# Altium integrated library Analog Devices Switches and Multiplexers Multiplexers (Muxes).IntLib: 481 symbols (part 8 of 23)
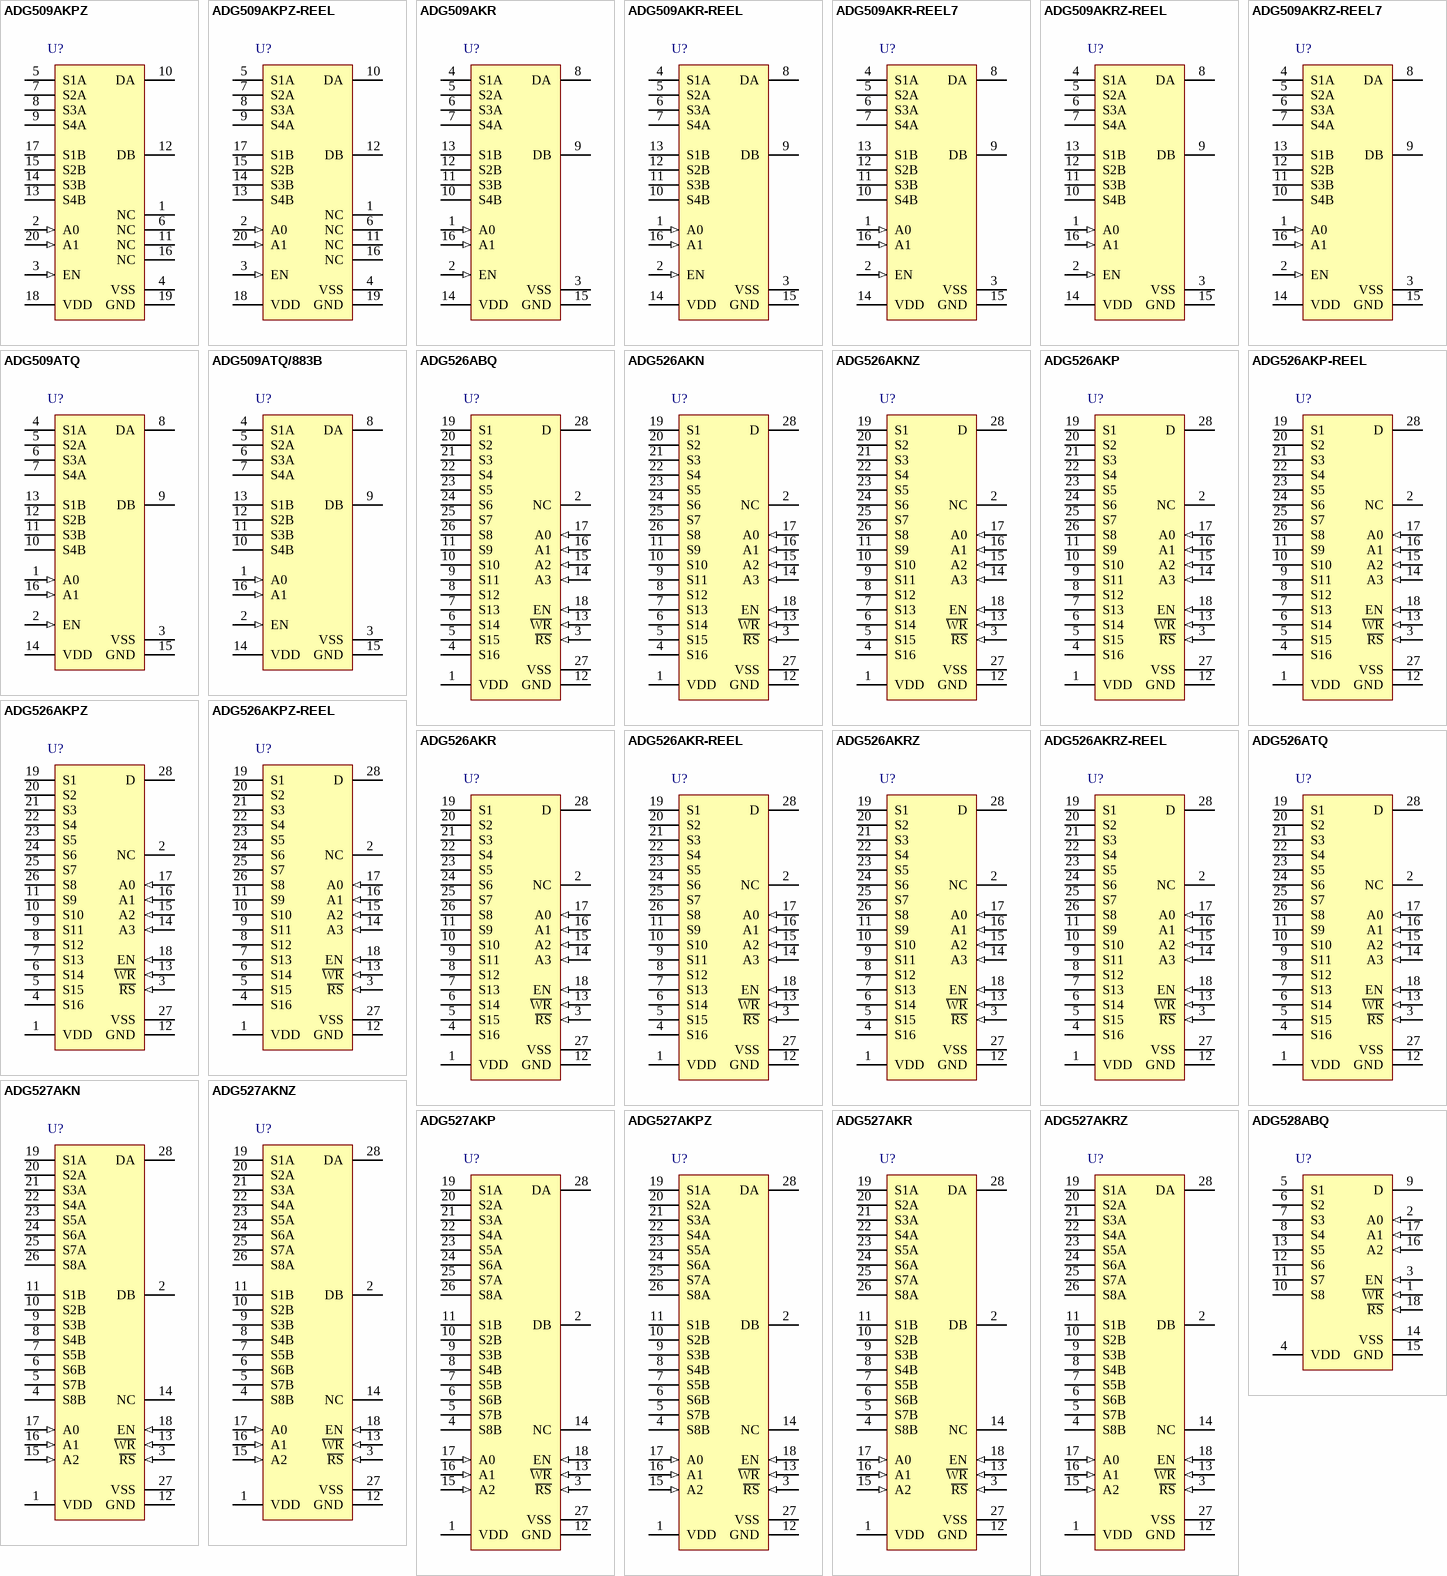
[diagram p24: symbols ADG509AKPZ to ADG528ABQ]

## ADG526AKNZ
designator U?
CMOS Latched 16-Channel Analog Multiplexer, -40 to 85 degC, 28-pin DIP (N-28-2), Tube; Manufacturer: Analog Devices; PartNumber: ADG526AKNZ; Max Analog Signal Range: Vss to Vdd; Ron (ohms): 280; Supply V Guar Performance: Dual_(+/-12V), Dual_(+/-15V), Single_(+12V), Single_(+15V); t transition (s): 200n; DatasheetVersion: Rev. C; PackageVersion: 071006-A, 07/2006; PackageReference: N-28-2; PackageDescription: 28-Pin Plastic Dual In-Line Package, Row spacing 15.24 mm, Pitch 2.54 mm; Supplier 1: Digi-Key; Supplier Part Number 1: ADG526AKNZ-ND; Supplier 2: Farnell; Supplier Part Number 2: 1079380; Supplier 3: Newark; Supplier Part Number 3: 19M0678; Supplier 4: Mouser; Supplier Part Number 4: 584-ADG526AKNZ; Packing: Tube; Mounting Technology: Through Hole; Code_JEDEC: MS-011; ComponentLink1Description: Manufacturer URL; ComponentLink1URL: http://www.analog.com/en/index.html; ComponentLink2Description: Datasheet; ComponentLink2URL: http://www.analog.com/static/imported-files/data_sheets/ADG526A_527A.pdf; ComponentLink3Description: Package Specification; ComponentLink3URL: http://www.analog.com/static/imported-files/packages/50849324123784N_28_2.pdf
footprint ADI-N-28-2 (DIP, 28-Leads, Body 37.4x13.52mm, Pitch 2.54mm)
pins: 1 VDD (power) "Most Positive Power Supply Potential.", 2 NC "No Connect.", 3 ~{RS} (in) "Reset. The R\S\ signal clears both the address and enable data in the latches resulting in no output (all switches off).", 4 S16 "Source Terminal. This pin can be an input or output.", 5 S15 "Source Terminal. This pin can be an input or output.", 6 S14 "Source Terminal. This pin can be an input or output.", 7 S13 "Source Terminal. This pin can be an input or output.", 8 S12 "Source Terminal. This pin can be an input or output.", 9 S11 "Source Terminal. This pin can be an input or output.", 10 S10 "Source Terminal. This pin can be an input or output.", 11 S9 "Source Terminal. This pin can be an input or output.", 12 GND (power) "Ground (0 V) Reference.", 13 ~{WR} (in) "Write. The W\R\ signal latches the state of the address control lines and the enable line.", 14 A3 (in) "Logic Control Inputs. Selects which source terminal is connected to the drain (D).", 15 A2 (in) "Logic Control Inputs. Selects which source terminal is connected to the drain (D).", 16 A1 (in) "Logic Control Inputs. Selects which source terminal is connected to the drain (D).", 17 A0 (in) "Logic control inputs. Selects which source terminal is connected to the drain (D).", 18 EN (in) "Enable. Active high logic control input.", 19 S1 "Source Terminal. This pin can be an input or output.", 20 S2 "Source Terminal. This pin can be an input or output.", 21 S3 "Source Terminal. This pin can be an input or output.", 22 S4 "Source Terminal. This pin can be an input or output.", 23 S5 "Source Terminal. This pin can be an input or output.", 24 S6 "Source Terminal. This pin can be an input or output.", 25 S7 "Source Terminal. This pin can be an input or output.", 26 S8 "Source Terminal. This pin can be an input or output.", 27 VSS (power) "Most Negative Power Supply Potential.", 28 D "Drain Terminal. This pin can be an input or output."

## ADG526AKP
designator U?
CMOS Latched 16-Channel Analog Multiplexer, -40 to 85 degC, 28-pin PLCC (P-28), Tube; Manufacturer: Analog Devices; PartNumber: ADG526AKP; Max Analog Signal Range: Vss to Vdd; Ron (ohms): 280; Supply V Guar Performance: Dual_(+/-12V), Dual_(+/-15V), Single_(+12V), Single_(+15V); t transition (s): 200n; DatasheetVersion: Rev. C; PackageVersion: 042508-A, 04/2008; PackageReference: P-28; PackageDescription: 28-Pin Plastic Leaded Chip Carrier, Body 11.51 x 11.51 mm, Pitch 1.27 mm; Supplier 1: Digi-Key; Supplier Part Number 1: ADG526AKP-ND; Supplier 2: Newark; Supplier Part Number 2: 56J9241; Supplier 3: Mouser; Supplier Part Number 3: 584-ADG526AKP; Packing: Tube; Mounting Technology: Surface Mount; Code_JEDEC: MO-047-AB; ComponentLink1Description: Manufacturer URL; ComponentLink1URL: http://www.analog.com/en/index.html; ComponentLink2Description: Datasheet; ComponentLink2URL: http://www.analog.com/static/imported-files/data_sheets/ADG526A_527A.pdf; ComponentLink3Description: Package Specification; ComponentLink3URL: http://www.analog.com/static/imported-files/packages/PKG_PDF/PLCC(P)/P_28.pdf
footprint ADI-P-28_N (PLCC, 28-Leads, Body 11.51x11.51mm, Pitch 1.27mm, IPC Medium Density)
footprint ADI-P-28_L (PLCC, 28-Leads, Body 11.51x11.51mm, Pitch 1.27mm, IPC High Density)
footprint ADI-P-28_M (PLCC, 28-Leads, Body 11.51x11.51mm, Pitch 1.27mm, IPC Low Density)
pins: 1 VDD (power) "Most Positive Power Supply Potential.", 2 NC "No connect", 3 ~{RS} (in) "Reset. The R\S\ signal clears both the address and enable data in the latches resulting in no output (all switches off).", 4 S16 "Source Terminal. This pin can be an input or output.", 5 S15 "Source Terminal. This pin can be an input or output.", 6 S14 "Source Terminal. This pin can be an input or output.", 7 S13 "Source Terminal. This pin can be an input or output.", 8 S12 "Source Terminal. This pin can be an input or output.", 9 S11 "Source Terminal. This pin can be an input or output.", 10 S10 "Source Terminal. This pin can be an input or output.", 11 S9 "Source Terminal. This pin can be an input or output.", 12 GND (power) "Ground (0 V) Reference.", 13 ~{WR} (in) "Write. The W\R\ signal latches the state of the address control lines and the enable line.", 14 A3 (in) "Logic Control Inputs. Selects which source terminal is connected to the drain (D).", 15 A2 (in) "Logic Control Inputs. Selects which source terminal is connected to the drain (D).", 16 A1 (in) "Logic Control Inputs. Selects which source terminal is connected to the drain (D).", 17 A0 (in) "Logic Control Inputs. Selects which source terminal is connected to the drain (D).", 18 EN (in) "Enable. Active high logic control input.", 19 S1 "Source Terminal. This pin can be an input or output.", 20 S2 "Source Terminal. This pin can be an input or output.", 21 S3 "Source Terminal. This pin can be an input or output.", 22 S4 "Source Terminal. This pin can be an input or output.", 23 S5 "Source Terminal. This pin can be an input or output.", 24 S6 "Source Terminal. This pin can be an input or output.", 25 S7 "Source Terminal. This pin can be an input or output.", 26 S8 "Source Terminal. This pin can be an input or output.", 27 VSS (power) "Most Negative Power Supply Potential.", 28 D "Drain Terminal. This pin can be an input or output."

## ADG526AKP-REEL
designator U?
CMOS Latched 16-Channel Analog Multiplexer, -40 to 85 degC, 28-pin PLCC (P-28), Reel; Manufacturer: Analog Devices; PartNumber: ADG526AKP-REEL; Max Analog Signal Range: Vss to Vdd; Ron (ohms): 280; Supply V Guar Performance: Dual_(+/-12V), Dual_(+/-15V), Single_(+12V), Single_(+15V); t transition (s): 200n; DatasheetVersion: Rev. C; PackageVersion: 042508-A, 04/2008; PackageReference: P-28; PackageDescription: 28-Pin Plastic Leaded Chip Carrier, Body 11.51 x 11.51 mm, Pitch 1.27 mm; Supplier 1: Mouser; Supplier Part Number 1: N/A; Packing: Reel; Mounting Technology: Surface Mount; Code_JEDEC: MO-047-AB; ComponentLink1Description: Manufacturer URL; ComponentLink1URL: http://www.analog.com/en/index.html; ComponentLink2Description: Datasheet; ComponentLink2URL: http://www.analog.com/static/imported-files/data_sheets/ADG526A_527A.pdf; ComponentLink3Description: Package Specification; ComponentLink3URL: http://www.analog.com/static/imported-files/packages/PKG_PDF/PLCC(P)/P_28.pdf
footprint ADI-P-28_N (PLCC, 28-Leads, Body 11.51x11.51mm, Pitch 1.27mm, IPC Medium Density)
footprint ADI-P-28_L (PLCC, 28-Leads, Body 11.51x11.51mm, Pitch 1.27mm, IPC High Density)
footprint ADI-P-28_M (PLCC, 28-Leads, Body 11.51x11.51mm, Pitch 1.27mm, IPC Low Density)
pins: 1 VDD (power) "Most Positive Power Supply Potential.", 2 NC "No connect", 3 ~{RS} (in) "Reset. The R\S\ signal clears both the address and enable data in the latches resulting in no output (all switches off).", 4 S16 "Source Terminal. This pin can be an input or output.", 5 S15 "Source Terminal. This pin can be an input or output.", 6 S14 "Source Terminal. This pin can be an input or output.", 7 S13 "Source Terminal. This pin can be an input or output.", 8 S12 "Source Terminal. This pin can be an input or output.", 9 S11 "Source Terminal. This pin can be an input or output.", 10 S10 "Source Terminal. This pin can be an input or output.", 11 S9 "Source Terminal. This pin can be an input or output.", 12 GND (power) "Ground (0 V) Reference.", 13 ~{WR} (in) "Write. The W\R\ signal latches the state of the address control lines and the enable line.", 14 A3 (in) "Logic Control Inputs. Selects which source terminal is connected to the drain (D).", 15 A2 (in) "Logic Control Inputs. Selects which source terminal is connected to the drain (D).", 16 A1 (in) "Logic Control Inputs. Selects which source terminal is connected to the drain (D).", 17 A0 (in) "Logic Control Inputs. Selects which source terminal is connected to the drain (D).", 18 EN (in) "Enable. Active high logic control input.", 19 S1 "Source Terminal. This pin can be an input or output.", 20 S2 "Source Terminal. This pin can be an input or output.", 21 S3 "Source Terminal. This pin can be an input or output.", 22 S4 "Source Terminal. This pin can be an input or output.", 23 S5 "Source Terminal. This pin can be an input or output.", 24 S6 "Source Terminal. This pin can be an input or output.", 25 S7 "Source Terminal. This pin can be an input or output.", 26 S8 "Source Terminal. This pin can be an input or output.", 27 VSS (power) "Most Negative Power Supply Potential.", 28 D "Drain Terminal. This pin can be an input or output."

## ADG526AKPZ
designator U?
CMOS Latched 16-Channel Analog Multiplexer, -40 to 85 degC, 28-pin PLCC (P-28), Tube; Manufacturer: Analog Devices; PartNumber: ADG526AKPZ; Max Analog Signal Range: Vss to Vdd; Ron (ohms): 280; Supply V Guar Performance: Dual_(+/-12V), Dual_(+/-15V), Single_(+12V), Single_(+15V); t transition (s): 200n; DatasheetVersion: Rev. C; PackageVersion: 042508-A, 04/2008; PackageReference: P-28; PackageDescription: 28-Pin Plastic Leaded Chip Carrier, Body 11.51 x 11.51 mm, Pitch 1.27 mm; Supplier 1: Digi-Key; Supplier Part Number 1: ADG526AKPZ-ND; Supplier 2: Newark; Supplier Part Number 2: 12M7807; Supplier 3: Mouser; Supplier Part Number 3: 584-ADG526AKPZ; Packing: Tube; Mounting Technology: Surface Mount; Code_JEDEC: MO-047-AB; ComponentLink1Description: Manufacturer URL; ComponentLink1URL: http://www.analog.com/en/index.html; ComponentLink2Description: Datasheet; ComponentLink2URL: http://www.analog.com/static/imported-files/data_sheets/ADG526A_527A.pdf; ComponentLink3Description: Package Specification; ComponentLink3URL: http://www.analog.com/static/imported-files/packages/PKG_PDF/PLCC(P)/P_28.pdf
footprint ADI-P-28_N (PLCC, 28-Leads, Body 11.51x11.51mm, Pitch 1.27mm, IPC Medium Density)
footprint ADI-P-28_L (PLCC, 28-Leads, Body 11.51x11.51mm, Pitch 1.27mm, IPC High Density)
footprint ADI-P-28_M (PLCC, 28-Leads, Body 11.51x11.51mm, Pitch 1.27mm, IPC Low Density)
pins: 1 VDD (power) "Most Positive Power Supply Potential.", 2 NC "No connect", 3 ~{RS} (in) "Reset. The R\S\ signal clears both the address and enable data in the latches resulting in no output (all switches off).", 4 S16 "Source Terminal. This pin can be an input or output.", 5 S15 "Source Terminal. This pin can be an input or output.", 6 S14 "Source Terminal. This pin can be an input or output.", 7 S13 "Source Terminal. This pin can be an input or output.", 8 S12 "Source Terminal. This pin can be an input or output.", 9 S11 "Source Terminal. This pin can be an input or output.", 10 S10 "Source Terminal. This pin can be an input or output.", 11 S9 "Source Terminal. This pin can be an input or output.", 12 GND (power) "Ground (0 V) Reference.", 13 ~{WR} (in) "Write. The W\R\ signal latches the state of the address control lines and the enable line.", 14 A3 (in) "Logic Control Inputs. Selects which source terminal is connected to the drain (D).", 15 A2 (in) "Logic Control Inputs. Selects which source terminal is connected to the drain (D).", 16 A1 (in) "Logic Control Inputs. Selects which source terminal is connected to the drain (D).", 17 A0 (in) "Logic Control Inputs. Selects which source terminal is connected to the drain (D).", 18 EN (in) "Enable. Active high logic control input.", 19 S1 "Source Terminal. This pin can be an input or output.", 20 S2 "Source Terminal. This pin can be an input or output.", 21 S3 "Source Terminal. This pin can be an input or output.", 22 S4 "Source Terminal. This pin can be an input or output.", 23 S5 "Source Terminal. This pin can be an input or output.", 24 S6 "Source Terminal. This pin can be an input or output.", 25 S7 "Source Terminal. This pin can be an input or output.", 26 S8 "Source Terminal. This pin can be an input or output.", 27 VSS (power) "Most Negative Power Supply Potential.", 28 D "Drain Terminal. This pin can be an input or output."

## ADG526AKPZ-REEL
designator U?
CMOS Latched 16-Channel Analog Multiplexer, -40 to 85 degC, 28-pin PLCC (P-28), Reel; Manufacturer: Analog Devices; PartNumber: ADG526AKPZ-REEL; Max Analog Signal Range: Vss to Vdd; Ron (ohms): 280; Supply V Guar Performance: Dual_(+/-12V), Dual_(+/-15V), Single_(+12V), Single_(+15V); t transition (s): 200n; DatasheetVersion: Rev. C; PackageVersion: 042508-A, 04/2008; PackageReference: P-28; PackageDescription: 28-Pin Plastic Leaded Chip Carrier, Body 11.51 x 11.51 mm, Pitch 1.27 mm; Supplier 1: Digi-Key; Supplier Part Number 1: ADG526AKPZ-REEL-ND; Supplier 2: Newark; Supplier Part Number 2: 12M7808; Supplier 3: Mouser; Supplier Part Number 3: 584-ADG526AKPZ-R; Packing: Reel; Mounting Technology: Surface Mount; Code_JEDEC: MO-047-AB; ComponentLink1Description: Manufacturer URL; ComponentLink1URL: http://www.analog.com/en/index.html; ComponentLink2Description: Datasheet; ComponentLink2URL: http://www.analog.com/static/imported-files/data_sheets/ADG526A_527A.pdf; ComponentLink3Description: Package Specification; ComponentLink3URL: http://www.analog.com/static/imported-files/packages/PKG_PDF/PLCC(P)/P_28.pdf
footprint ADI-P-28_N (PLCC, 28-Leads, Body 11.51x11.51mm, Pitch 1.27mm, IPC Medium Density)
footprint ADI-P-28_L (PLCC, 28-Leads, Body 11.51x11.51mm, Pitch 1.27mm, IPC High Density)
footprint ADI-P-28_M (PLCC, 28-Leads, Body 11.51x11.51mm, Pitch 1.27mm, IPC Low Density)
pins: 1 VDD (power) "Most Positive Power Supply Potential.", 2 NC "No connect", 3 ~{RS} (in) "Reset. The R\S\ signal clears both the address and enable data in the latches resulting in no output (all switches off).", 4 S16 "Source Terminal. This pin can be an input or output.", 5 S15 "Source Terminal. This pin can be an input or output.", 6 S14 "Source Terminal. This pin can be an input or output.", 7 S13 "Source Terminal. This pin can be an input or output.", 8 S12 "Source Terminal. This pin can be an input or output.", 9 S11 "Source Terminal. This pin can be an input or output.", 10 S10 "Source Terminal. This pin can be an input or output.", 11 S9 "Source Terminal. This pin can be an input or output.", 12 GND (power) "Ground (0 V) Reference.", 13 ~{WR} (in) "Write. The W\R\ signal latches the state of the address control lines and the enable line.", 14 A3 (in) "Logic Control Inputs. Selects which source terminal is connected to the drain (D).", 15 A2 (in) "Logic Control Inputs. Selects which source terminal is connected to the drain (D).", 16 A1 (in) "Logic Control Inputs. Selects which source terminal is connected to the drain (D).", 17 A0 (in) "Logic Control Inputs. Selects which source terminal is connected to the drain (D).", 18 EN (in) "Enable. Active high logic control input.", 19 S1 "Source Terminal. This pin can be an input or output.", 20 S2 "Source Terminal. This pin can be an input or output.", 21 S3 "Source Terminal. This pin can be an input or output.", 22 S4 "Source Terminal. This pin can be an input or output.", 23 S5 "Source Terminal. This pin can be an input or output.", 24 S6 "Source Terminal. This pin can be an input or output.", 25 S7 "Source Terminal. This pin can be an input or output.", 26 S8 "Source Terminal. This pin can be an input or output.", 27 VSS (power) "Most Negative Power Supply Potential.", 28 D "Drain Terminal. This pin can be an input or output."

## ADG526AKR
designator U?
CMOS Latched 16-Channel Analog Multiplexer, -40 to 85 degC, 28-pin SOIC (RW-28), Tube; Manufacturer: Analog Devices; PartNumber: ADG526AKR; Max Analog Signal Range: Vss to Vdd; Ron (ohms): 280; Supply V Guar Performance: Dual_(+/-12V), Dual_(+/-15V), Single_(+12V), Single_(+15V); t transition (s): 200n; DatasheetVersion: Rev. C; PackageVersion: 060706-A, 06/2006; PackageReference: RW-28; PackageDescription: 28-Pin Standard Small Outline Package, Body 17.9 x 7.5 mm, Pitch 1.27 mm; Supplier 1: Digi-Key; Supplier Part Number 1: ADG526AKR-ND; Supplier 2: Mouser; Supplier Part Number 2: 584-ADG526AKR; Packing: Tube; Mounting Technology: Surface Mount; Code_JEDEC: MS-013-AE; ComponentLink1Description: Manufacturer URL; ComponentLink1URL: http://www.analog.com/en/index.html; ComponentLink2Description: Datasheet; ComponentLink2URL: http://www.analog.com/static/imported-files/data_sheets/ADG526A_527A.pdf; ComponentLink3Description: Package Specification; ComponentLink3URL: http://www.analog.com/static/imported-files/packages/35833120341221RW_28.pdf
footprint ADI-RW-28_N (SOIC, 28-Leads, Body 17.9x7.5mm, Pitch 1.27mm, IPC Medium Density)
footprint ADI-RW-28_L (SOIC, 28-Leads, Body 17.9x7.5mm, Pitch 1.27mm, IPC High Density)
footprint ADI-RW-28_M (SOIC, 28-Leads, Body 17.9x7.5mm, Pitch 1.27mm, IPC Low Density)
pins: 1 VDD (power) "Most Positive Power Supply Potential.", 2 NC "No Connect.", 3 ~{RS} (in) "Reset. The R\S\ signal clears both the address and enable data in the latches resulting in no output (all switches off).", 4 S16 "Source Terminal. This pin can be an input or output.", 5 S15 "Source Terminal. This pin can be an input or output.", 6 S14 "Source Terminal. This pin can be an input or output.", 7 S13 "Source Terminal. This pin can be an input or output.", 8 S12 "Source Terminal. This pin can be an input or output.", 9 S11 "Source Terminal. This pin can be an input or output.", 10 S10 "Source Terminal. This pin can be an input or output.", 11 S9 "Source Terminal. This pin can be an input or output.", 12 GND (power) "Ground (0 V) Reference.", 13 ~{WR} (in) "Write. The W\R\ signal latches the state of the address control lines and the enable line.", 14 A3 (in) "Logic control inputs. Selects which source terminal is connected to the drain (D).", 15 A2 (in) "Logic control inputs. Selects which source terminal is connected to the drain (D).", 16 A1 (in) "Logic control inputs. Selects which source terminal is connected to the drain (D).", 17 A0 (in) "Logic control inputs. Selects which source terminal is connected to the drain (D).", 18 EN (in) "Enable. Active high logic control input.", 19 S1 "Source Terminal. This pin can be an input or output.", 20 S2 "Source Terminal. This pin can be an input or output.", 21 S3 "Source Terminal. This pin can be an input or output.", 22 S4 "Source Terminal. This pin can be an input or output.", 23 S5 "Source Terminal. This pin can be an input or output.", 24 S6 "Source Terminal. This pin can be an input or output.", 25 S7 "Source Terminal. This pin can be an input or output.", 26 S8 "Source Terminal. This pin can be an input or output.", 27 VSS (power) "Most Negative Power Supply Potential.", 28 D "Drain Terminal. This pin can be an input or output."

## ADG526AKR-REEL
designator U?
CMOS Latched 16-Channel Analog Multiplexer, -40 to 85 degC, 28-pin SOIC (RW-28), Reel; Manufacturer: Analog Devices; PartNumber: ADG526AKR-REEL; Max Analog Signal Range: Vss to Vdd; Ron (ohms): 280; Supply V Guar Performance: Dual_(+/-12V), Dual_(+/-15V), Single_(+12V), Single_(+15V); t transition (s): 200n; DatasheetVersion: Rev. C; PackageVersion: 060706-A, 06/2006; PackageReference: RW-28; PackageDescription: 28-Pin Standard Small Outline Package, Body 17.9 x 7.5 mm, Pitch 1.27 mm; Supplier 1: Digi-Key; Supplier Part Number 1: ADG526AKR-REEL-ND; Supplier 2: Newark; Supplier Part Number 2: 09B7115; Supplier 3: Mouser; Supplier Part Number 3: 584-ADG526AKR-R; Packing: Reel; Mounting Technology: Surface Mount; Code_JEDEC: MS-013-AE; ComponentLink1Description: Manufacturer URL; ComponentLink1URL: http://www.analog.com/en/index.html; ComponentLink2Description: Datasheet; ComponentLink2URL: http://www.analog.com/static/imported-files/data_sheets/ADG526A_527A.pdf; ComponentLink3Description: Package Specification; ComponentLink3URL: http://www.analog.com/static/imported-files/packages/35833120341221RW_28.pdf
footprint ADI-RW-28_N (SOIC, 28-Leads, Body 17.9x7.5mm, Pitch 1.27mm, IPC Medium Density)
footprint ADI-RW-28_L (SOIC, 28-Leads, Body 17.9x7.5mm, Pitch 1.27mm, IPC High Density)
footprint ADI-RW-28_M (SOIC, 28-Leads, Body 17.9x7.5mm, Pitch 1.27mm, IPC Low Density)
pins: 1 VDD (power) "Most Positive Power Supply Potential.", 2 NC "No Connect.", 3 ~{RS} (in) "Reset. The R\S\ signal clears both the address and enable data in the latches resulting in no output (all switches off).", 4 S16 "Source Terminal. This pin can be an input or output.", 5 S15 "Source Terminal. This pin can be an input or output.", 6 S14 "Source Terminal. This pin can be an input or output.", 7 S13 "Source Terminal. This pin can be an input or output.", 8 S12 "Source Terminal. This pin can be an input or output.", 9 S11 "Source Terminal. This pin can be an input or output.", 10 S10 "Source Terminal. This pin can be an input or output.", 11 S9 "Source Terminal. This pin can be an input or output.", 12 GND (power) "Ground (0 V) Reference.", 13 ~{WR} (in) "Write. The W\R\ signal latches the state of the address control lines and the enable line.", 14 A3 (in) "Logic control inputs. Selects which source terminal is connected to the drain (D).", 15 A2 (in) "Logic control inputs. Selects which source terminal is connected to the drain (D).", 16 A1 (in) "Logic control inputs. Selects which source terminal is connected to the drain (D).", 17 A0 (in) "Logic control inputs. Selects which source terminal is connected to the drain (D).", 18 EN (in) "Enable. Active high logic control input.", 19 S1 "Source Terminal. This pin can be an input or output.", 20 S2 "Source Terminal. This pin can be an input or output.", 21 S3 "Source Terminal. This pin can be an input or output.", 22 S4 "Source Terminal. This pin can be an input or output.", 23 S5 "Source Terminal. This pin can be an input or output.", 24 S6 "Source Terminal. This pin can be an input or output.", 25 S7 "Source Terminal. This pin can be an input or output.", 26 S8 "Source Terminal. This pin can be an input or output.", 27 VSS (power) "Most Negative Power Supply Potential.", 28 D "Drain Terminal. This pin can be an input or output."

## ADG526AKRZ
designator U?
CMOS Latched 16-Channel Analog Multiplexer, -40 to 85 degC, 28-pin SOIC (RW-28), Tube; Manufacturer: Analog Devices; PartNumber: ADG526AKRZ; Max Analog Signal Range: Vss to Vdd; Ron (ohms): 280; Supply V Guar Performance: Dual_(+/-12V), Dual_(+/-15V), Single_(+12V), Single_(+15V); t transition (s): 200n; DatasheetVersion: Rev. C; PackageVersion: 060706-A, 06/2006; PackageReference: RW-28; PackageDescription: 28-Pin Standard Small Outline Package, Body 17.9 x 7.5 mm, Pitch 1.27 mm; Supplier 1: Digi-Key; Supplier Part Number 1: ADG526AKRZ-ND; Supplier 2: Newark; Supplier Part Number 2: 59K1394; Supplier 3: Mouser; Supplier Part Number 3: 584-ADG526AKRZ; Packing: Tube; Mounting Technology: Surface Mount; Code_JEDEC: MS-013-AE; ComponentLink1Description: Manufacturer URL; ComponentLink1URL: http://www.analog.com/en/index.html; ComponentLink2Description: Datasheet; ComponentLink2URL: http://www.analog.com/static/imported-files/data_sheets/ADG526A_527A.pdf; ComponentLink3Description: Package Specification; ComponentLink3URL: http://www.analog.com/static/imported-files/packages/35833120341221RW_28.pdf
footprint ADI-RW-28_N (SOIC, 28-Leads, Body 17.9x7.5mm, Pitch 1.27mm, IPC Medium Density)
footprint ADI-RW-28_L (SOIC, 28-Leads, Body 17.9x7.5mm, Pitch 1.27mm, IPC High Density)
footprint ADI-RW-28_M (SOIC, 28-Leads, Body 17.9x7.5mm, Pitch 1.27mm, IPC Low Density)
pins: 1 VDD (power) "Most Positive Power Supply Potential.", 2 NC "No Connect.", 3 ~{RS} (in) "Reset. The R\S\ signal clears both the address and enable data in the latches resulting in no output (all switches off).", 4 S16 "Source Terminal. This pin can be an input or output.", 5 S15 "Source Terminal. This pin can be an input or output.", 6 S14 "Source Terminal. This pin can be an input or output.", 7 S13 "Source Terminal. This pin can be an input or output.", 8 S12 "Source Terminal. This pin can be an input or output.", 9 S11 "Source Terminal. This pin can be an input or output.", 10 S10 "Source Terminal. This pin can be an input or output.", 11 S9 "Source Terminal. This pin can be an input or output.", 12 GND (power) "Ground (0 V) Reference.", 13 ~{WR} (in) "Write. The W\R\ signal latches the state of the address control lines and the enable line.", 14 A3 (in) "Logic control inputs. Selects which source terminal is connected to the drain (D).", 15 A2 (in) "Logic control inputs. Selects which source terminal is connected to the drain (D).", 16 A1 (in) "Logic control inputs. Selects which source terminal is connected to the drain (D).", 17 A0 (in) "Logic control inputs. Selects which source terminal is connected to the drain (D).", 18 EN (in) "Enable. Active high logic control input.", 19 S1 "Source Terminal. This pin can be an input or output.", 20 S2 "Source Terminal. This pin can be an input or output.", 21 S3 "Source Terminal. This pin can be an input or output.", 22 S4 "Source Terminal. This pin can be an input or output.", 23 S5 "Source Terminal. This pin can be an input or output.", 24 S6 "Source Terminal. This pin can be an input or output.", 25 S7 "Source Terminal. This pin can be an input or output.", 26 S8 "Source Terminal. This pin can be an input or output.", 27 VSS (power) "Most Negative Power Supply Potential.", 28 D "Drain Terminal. This pin can be an input or output."

## ADG526AKRZ-REEL
designator U?
CMOS Latched 16-Channel Analog Multiplexer, -40 to 85 degC, 28-pin SOIC (RW-28), Reel; Manufacturer: Analog Devices; PartNumber: ADG526AKRZ-REEL; Max Analog Signal Range: Vss to Vdd; Ron (ohms): 280; Supply V Guar Performance: Dual_(+/-12V), Dual_(+/-15V), Single_(+12V), Single_(+15V); t transition (s): 200n; DatasheetVersion: Rev. C; PackageVersion: 060706-A, 06/2006; PackageReference: RW-28; PackageDescription: 28-Pin Standard Small Outline Package, Body 17.9 x 7.5 mm, Pitch 1.27 mm; Supplier 1: Digi-Key; Supplier Part Number 1: ADG526AKRZ-REEL-ND; Supplier 2: Newark; Supplier Part Number 2: 12M7809; Supplier 3: Mouser; Supplier Part Number 3: 584-ADG526AKRZ-R; Packing: Reel; Mounting Technology: Surface Mount; Code_JEDEC: MS-013-AE; ComponentLink1Description: Manufacturer URL; ComponentLink1URL: http://www.analog.com/en/index.html; ComponentLink2Description: Datasheet; ComponentLink2URL: http://www.analog.com/static/imported-files/data_sheets/ADG526A_527A.pdf; ComponentLink3Description: Package Specification; ComponentLink3URL: http://www.analog.com/static/imported-files/packages/35833120341221RW_28.pdf
footprint ADI-RW-28_N (SOIC, 28-Leads, Body 17.9x7.5mm, Pitch 1.27mm, IPC Medium Density)
footprint ADI-RW-28_L (SOIC, 28-Leads, Body 17.9x7.5mm, Pitch 1.27mm, IPC High Density)
footprint ADI-RW-28_M (SOIC, 28-Leads, Body 17.9x7.5mm, Pitch 1.27mm, IPC Low Density)
pins: 1 VDD (power) "Most Positive Power Supply Potential.", 2 NC "No Connect.", 3 ~{RS} (in) "Reset. The R\S\ signal clears both the address and enable data in the latches resulting in no output (all switches off).", 4 S16 "Source Terminal. This pin can be an input or output.", 5 S15 "Source Terminal. This pin can be an input or output.", 6 S14 "Source Terminal. This pin can be an input or output.", 7 S13 "Source Terminal. This pin can be an input or output.", 8 S12 "Source Terminal. This pin can be an input or output.", 9 S11 "Source Terminal. This pin can be an input or output.", 10 S10 "Source Terminal. This pin can be an input or output.", 11 S9 "Source Terminal. This pin can be an input or output.", 12 GND (power) "Ground (0 V) Reference.", 13 ~{WR} (in) "Write. The W\R\ signal latches the state of the address control lines and the enable line.", 14 A3 (in) "Logic control inputs. Selects which source terminal is connected to the drain (D).", 15 A2 (in) "Logic control inputs. Selects which source terminal is connected to the drain (D).", 16 A1 (in) "Logic control inputs. Selects which source terminal is connected to the drain (D).", 17 A0 (in) "Logic control inputs. Selects which source terminal is connected to the drain (D).", 18 EN (in) "Enable. Active high logic control input.", 19 S1 "Source Terminal. This pin can be an input or output.", 20 S2 "Source Terminal. This pin can be an input or output.", 21 S3 "Source Terminal. This pin can be an input or output.", 22 S4 "Source Terminal. This pin can be an input or output.", 23 S5 "Source Terminal. This pin can be an input or output.", 24 S6 "Source Terminal. This pin can be an input or output.", 25 S7 "Source Terminal. This pin can be an input or output.", 26 S8 "Source Terminal. This pin can be an input or output.", 27 VSS (power) "Most Negative Power Supply Potential.", 28 D "Drain Terminal. This pin can be an input or output."

## ADG526ATQ
designator U?
CMOS Latched 16-Channel Analog Multiplexer, -55 to 125 degC, 28-pin DIP (Q-28-2), Tube; Manufacturer: Analog Devices; PartNumber: ADG526ATQ; Max Analog Signal Range: Vss to Vdd; Ron (ohms): 280; Supply V Guar Performance: Dual_(+/-12V), Dual_(+/-15V), Single_(+12V), Single_(+15V); t transition (s): 200n; DatasheetVersion: Rev. C; PackageVersion: 030106-A, 03/2006; PackageReference: Q-28-2; PackageDescription: 28-Pin Ceramic Dual In-Line Package, Row spacing 15.24 mm, Pitch 2.54 mm; Supplier 1: Digi-Key; Supplier Part Number 1: ADG526ATQ-ND; Supplier 2: Mouser; Supplier Part Number 2: 584-ADG526ATQ; Packing: Tube; Mounting Technology: Through Hole; ComponentLink1Description: Manufacturer URL; ComponentLink1URL: http://www.analog.com/en/index.html; ComponentLink2Description: Datasheet; ComponentLink2URL: http://www.analog.com/static/imported-files/data_sheets/ADG526A_527A.pdf; ComponentLink3Description: Package Specification; ComponentLink3URL: http://www.analog.com/static/imported-files/packages/4045339666127361303Q_28_2.pdf
footprint ADI-Q-28-2 (DIP, 28-Leads, Body 37.85x14.1mm, Pitch 2.54mm)
pins: 1 VDD (power) "Most Positive Power Supply Potential.", 2 NC "No Connect.", 3 ~{RS} (in) "Reset. The R\S\ signal clears both the address and enable data in the latches resulting in no output (all switches off).", 4 S16 "Source Terminal. This pin can be an input or output.", 5 S15 "Source Terminal. This pin can be an input or output.", 6 S14 "Source Terminal. This pin can be an input or output.", 7 S13 "Source Terminal. This pin can be an input or output.", 8 S12 "Source Terminal. This pin can be an input or output.", 9 S11 "Source Terminal. This pin can be an input or output.", 10 S10 "Source Terminal. This pin can be an input or output.", 11 S9 "Source Terminal. This pin can be an input or output.", 12 GND (power) "Ground (0 V) Reference.", 13 ~{WR} (in) "Write. The W\R\ signal latches the state of the address control lines and the enable line.", 14 A3 (in) "Logic Control Inputs. Selects which source terminal is connected to the drain (D).", 15 A2 (in) "Logic Control Inputs. Selects which source terminal is connected to the drain (D).", 16 A1 (in) "Logic Control Inputs. Selects which source terminal is connected to the drain (D).", 17 A0 (in) "Logic Control Inputs. Selects which source terminal is connected to the drain (D).", 18 EN (in) "Enable. Active high logic control input.", 19 S1 "Source Terminal. This pin can be an input or output.", 20 S2 "Source Terminal. This pin can be an input or output.", 21 S3 "Source Terminal. This pin can be an input or output.", 22 S4 "Source Terminal. This pin can be an input or output.", 23 S5 "Source Terminal. This pin can be an input or output.", 24 S6 "Source Terminal. This pin can be an input or output.", 25 S7 "Source Terminal. This pin can be an input or output.", 26 S8 "Source Terminal. This pin can be an input or output.", 27 VSS (power) "Most Negative Power Supply Potential", 28 D "Drain Terminal. Can be an input or an output."

## ADG527AKN
designator U?
CMOS Latched 8-Channel Analog Multiplexer, -40 to 85 degC, 28-pin DIP (N-28), Tube; Manufacturer: Analog Devices; PartNumber: ADG527AKN; Max Analog Signal Range: Vss to Vdd; Ron (ohms): 280; Supply V Guar Performance: Dual_(+/-12V), Dual_(+/-15V), Single_(+12V), Single_(+15V); t transition (s): 200n; DatasheetVersion: Rev. C; PackageVersion: 071006-A, 07/2006; PackageReference: N-28-2; PackageDescription: 28-Pin Plastic Dual In-Line Package, Row spacing 15.24 mm, Pitch 2.54 mm; Supplier 1: Mouser; Supplier Part Number 1: 584-ADG527AKN; Packing: Tube; Mounting Technology: Through Hole; Code_JEDEC: MS-011; ComponentLink1Description: Manufacturer URL; ComponentLink1URL: http://www.analog.com/en/index.html; ComponentLink2Description: Datasheet; ComponentLink2URL: http://www.analog.com/static/imported-files/data_sheets/ADG526A_527A.pdf; ComponentLink3Description: Package Specification; ComponentLink3URL: http://www.analog.com/static/imported-files/packages/50849324123784N_28_2.pdf
footprint ADI-N-28-2 (DIP, 28-Leads, Body 37.4x13.52mm, Pitch 2.54mm)
pins: 1 VDD (power) "Most Positive Power Supply Potential.", 2 DB "Drain Terminal. This pin can be an input or output.", 3 ~{RS} (in) "Reset. The R\S\ signal clears both the address and enable data in the latches resulting in no output (all switches off).", 4 S8B "Source Terminal. This pin can be an input or output.", 5 S7B "Source Terminal. This pin can be an input or output.", 6 S6B "Source Terminal. This pin can be an input or output.", 7 S5B "Source Terminal. This pin can be an input or output.", 8 S4B "Source Terminal. This pin can be an input or output.", 9 S3B "Source Terminal. This pin can be an input or output.", 10 S2B "Source Terminal. This pin can be an input or output.", 11 S1B "Source Terminal. This pin can be an input or output.", 12 GND (power) "Ground (0 V) Reference.", 13 ~{WR} (in) "Write. The W\R\ signal latches the state of the address control lines and the enable line.", 14 NC "No Connect.", 15 A2 (in) "Logic Control Input. Selects which source terminal is connected to the drain (D).", 16 A1 (in) "Logic Control Input. Selects which source terminal is connected to the drain (D).", 17 A0 (in) "Logic Control Input. Selects which source terminal is connected to the drain (D).", 18 EN (in) "Enable. Active high logic control input.", 19 S1A "Source Terminal. This pin can be an input or output.", 20 S2A "Source Terminal. This pin can be an input or output.", 21 S3A "Source Terminal. This pin can be an input or output.", 22 S4A "Source Terminal. This pin can be an input or output.", 23 S5A "Source Terminal. This pin can be an input or output.", 24 S6A "Source Terminal. This pin can be an input or output.", 25 S7A "Source Terminal. This pin can be an input or output.", 26 S8A "Source Terminal. This pin can be an input or output.", 27 VSS (power) "Most Negative Power Supply Potential.", 28 DA "Drain Terminal. This pin can be an input or output."

## ADG527AKNZ
designator U?
CMOS Latched 8-Channel Analog Multiplexer, -40 to 85 degC, 28-pin DIP (N-28), Tube; Manufacturer: Analog Devices; PartNumber: ADG527AKNZ; Max Analog Signal Range: Vss to Vdd; Ron (ohms): 280; Supply V Guar Performance: Dual_(+/-12V), Dual_(+/-15V), Single_(+12V), Single_(+15V); t transition (s): 200n; DatasheetVersion: Rev. C; PackageVersion: 071006-A, 07/2006; PackageReference: N-28-2; PackageDescription: 28-Pin Plastic Dual In-Line Package, Row spacing 15.24 mm, Pitch 2.54 mm; Supplier 1: Mouser; Supplier Part Number 1: 584-ADG527AKNZ; Packing: Tube; Mounting Technology: Through Hole; Code_JEDEC: MS-011; ComponentLink1Description: Manufacturer URL; ComponentLink1URL: http://www.analog.com/en/index.html; ComponentLink2Description: Datasheet; ComponentLink2URL: http://www.analog.com/static/imported-files/data_sheets/ADG526A_527A.pdf; ComponentLink3Description: Package Specification; ComponentLink3URL: http://www.analog.com/static/imported-files/packages/50849324123784N_28_2.pdf
footprint ADI-N-28-2 (DIP, 28-Leads, Body 37.4x13.52mm, Pitch 2.54mm)
pins: 1 VDD (power) "Most Positive Power Supply Potential.", 2 DB "Drain Terminal. This pin can be an input or output.", 3 ~{RS} (in) "Reset. The R\S\ signal clears both the address and enable data in the latches resulting in no output (all switches off).", 4 S8B "Source Terminal. This pin can be an input or output.", 5 S7B "Source Terminal. This pin can be an input or output.", 6 S6B "Source Terminal. This pin can be an input or output.", 7 S5B "Source Terminal. This pin can be an input or output.", 8 S4B "Source Terminal. This pin can be an input or output.", 9 S3B "Source Terminal. This pin can be an input or output.", 10 S2B "Source Terminal. This pin can be an input or output.", 11 S1B "Source Terminal. This pin can be an input or output.", 12 GND (power) "Ground (0 V) Reference.", 13 ~{WR} (in) "Write. The W\R\ signal latches the state of the address control lines and the enable line.", 14 NC "No Connect.", 15 A2 (in) "Logic Control Input. Selects which source terminal is connected to the drain (D).", 16 A1 (in) "Logic Control Input. Selects which source terminal is connected to the drain (D).", 17 A0 (in) "Logic Control Input. Selects which source terminal is connected to the drain (D).", 18 EN (in) "Enable. Active high logic control input.", 19 S1A "Source Terminal. This pin can be an input or output.", 20 S2A "Source Terminal. This pin can be an input or output.", 21 S3A "Source Terminal. This pin can be an input or output.", 22 S4A "Source Terminal. This pin can be an input or output.", 23 S5A "Source Terminal. This pin can be an input or output.", 24 S6A "Source Terminal. This pin can be an input or output.", 25 S7A "Source Terminal. This pin can be an input or output.", 26 S8A "Source Terminal. This pin can be an input or output.", 27 VSS (power) "Most Negative Power Supply Potential.", 28 DA "Drain Terminal. This pin can be an input or output."

## ADG527AKP
designator U?
CMOS Latched 8-Channel Analog Multiplexer, -40 to 85 degC, 28-pin PLCC (P-28A), Tube; Manufacturer: Analog Devices; PartNumber: ADG527AKP; Max Analog Signal Range: Vss to Vdd; Ron (ohms): 280; Supply V Guar Performance: Dual_(+/-12V), Dual_(+/-15V), Single_(+12V), Single_(+15V); t transition (s): 200n; DatasheetVersion: Rev. C; PackageVersion: 042508-A, 04/2008; PackageReference: P-28; PackageDescription: 28-Pin Plastic Leaded Chip Carrier, Body 11.51 x 11.51 mm, Pitch 1.27 mm; Supplier 1: Mouser; Supplier Part Number 1: 584-ADG527AKP; Packing: Tube; Mounting Technology: Surface Mount; Code_JEDEC: MO-047-AB; ComponentLink1Description: Manufacturer URL; ComponentLink1URL: http://www.analog.com/en/index.html; ComponentLink2Description: Datasheet; ComponentLink2URL: http://www.analog.com/static/imported-files/data_sheets/ADG526A_527A.pdf; ComponentLink3Description: Package Specification; ComponentLink3URL: http://www.analog.com/static/imported-files/packages/PKG_PDF/PLCC(P)/P_28.pdf
footprint ADI-P-28_N (PLCC, 28-Leads, Body 11.51x11.51mm, Pitch 1.27mm, IPC Medium Density)
footprint ADI-P-28_L (PLCC, 28-Leads, Body 11.51x11.51mm, Pitch 1.27mm, IPC High Density)
footprint ADI-P-28_M (PLCC, 28-Leads, Body 11.51x11.51mm, Pitch 1.27mm, IPC Low Density)
pins: 1 VDD (power) "Most Positive Power Supply Potential.", 2 DB "Drain Terminal. This pin can be an input or output.", 3 ~{RS} (in) "Reset. The RS signal clears both the address and enable data in the latches resulting in no output (all switches off).", 4 S8B "Source Terminal. This pin can be an input or output.", 5 S7B "Source Terminal. This pin can be an input or output.", 6 S6B "Source Terminal. This pin can be an input or output.", 7 S5B "Source Terminal. This pin can be an input or output.", 8 S4B "Source Terminal. This pin can be an input or output.", 9 S3B "Source Terminal. This pin can be an input or output.", 10 S2B "Source Terminal. This pin can be an input or output.", 11 S1B "Source Terminal. This pin can be an input or output.", 12 GND (power) "Ground (0 V) Reference.", 13 ~{WR} (in) "Write. The WR signal latches the state of the address control lines and the enable line.", 14 NC "No Connect.", 15 A2 (in) "Logic Control Inputs. Selects which source terminal is connected to the drain (D).", 16 A1 (in) "Logic Control Inputs. Selects which source terminal is connected to the drain (D).", 17 A0 (in) "Logic Control Inputs. Selects which source terminal is connected to the drain (D).", 18 EN (in) "Enable. Active high logic control input.", 19 S1A "Source Terminal. This pin can be an input or output.", 20 S2A "Source Terminal. This pin can be an input or output.", 21 S3A "Source Terminal. This pin can be an input or output.", 22 S4A "Source Terminal. This pin can be an input or output.", 23 S5A "Source Terminal. This pin can be an input or output.", 24 S6A "Source Terminal. This pin can be an input or output.", 25 S7A "Source Terminal. This pin can be an input or output.", 26 S8A "Source Terminal. This pin can be an input or output.", 27 VSS (power) "Most Negative Power Supply Potential.", 28 DA "Drain Terminal. This pin can be an input or output."

## ADG527AKPZ
designator U?
CMOS Latched 8-Channel Analog Multiplexer, -40 to 85 degC, 28-pin PLCC (P-28A), Tube; Manufacturer: Analog Devices; PartNumber: ADG527AKPZ; Max Analog Signal Range: Vss to Vdd; Ron (ohms): 280; Supply V Guar Performance: Dual_(+/-12V), Dual_(+/-15V), Single_(+12V), Single_(+15V); t transition (s): 200n; DatasheetVersion: Rev. C; PackageVersion: 042508-A, 04/2008; PackageReference: P-28; PackageDescription: 28-Pin Plastic Leaded Chip Carrier, Body 11.51 x 11.51 mm, Pitch 1.27 mm; Supplier 1: Mouser; Supplier Part Number 1: 584-ADG527AKPZ; Packing: Tube; Mounting Technology: Surface Mount; Code_JEDEC: MO-047-AB; ComponentLink1Description: Manufacturer URL; ComponentLink1URL: http://www.analog.com/en/index.html; ComponentLink2Description: Datasheet; ComponentLink2URL: http://www.analog.com/static/imported-files/data_sheets/ADG526A_527A.pdf; ComponentLink3Description: Package Specification; ComponentLink3URL: http://www.analog.com/static/imported-files/packages/PKG_PDF/PLCC(P)/P_28.pdf
footprint ADI-P-28_N (PLCC, 28-Leads, Body 11.51x11.51mm, Pitch 1.27mm, IPC Medium Density)
footprint ADI-P-28_L (PLCC, 28-Leads, Body 11.51x11.51mm, Pitch 1.27mm, IPC High Density)
footprint ADI-P-28_M (PLCC, 28-Leads, Body 11.51x11.51mm, Pitch 1.27mm, IPC Low Density)
pins: 1 VDD (power) "Most Positive Power Supply Potential.", 2 DB "Drain Terminal. This pin can be an input or output.", 3 ~{RS} (in) "Reset. The RS signal clears both the address and enable data in the latches resulting in no output (all switches off).", 4 S8B "Source Terminal. This pin can be an input or output.", 5 S7B "Source Terminal. This pin can be an input or output.", 6 S6B "Source Terminal. This pin can be an input or output.", 7 S5B "Source Terminal. This pin can be an input or output.", 8 S4B "Source Terminal. This pin can be an input or output.", 9 S3B "Source Terminal. This pin can be an input or output.", 10 S2B "Source Terminal. This pin can be an input or output.", 11 S1B "Source Terminal. This pin can be an input or output.", 12 GND (power) "Ground (0 V) Reference.", 13 ~{WR} (in) "Write. The WR signal latches the state of the address control lines and the enable line.", 14 NC "No Connect.", 15 A2 (in) "Logic Control Inputs. Selects which source terminal is connected to the drain (D).", 16 A1 (in) "Logic Control Inputs. Selects which source terminal is connected to the drain (D).", 17 A0 (in) "Logic Control Inputs. Selects which source terminal is connected to the drain (D).", 18 EN (in) "Enable. Active high logic control input.", 19 S1A "Source Terminal. This pin can be an input or output.", 20 S2A "Source Terminal. This pin can be an input or output.", 21 S3A "Source Terminal. This pin can be an input or output.", 22 S4A "Source Terminal. This pin can be an input or output.", 23 S5A "Source Terminal. This pin can be an input or output.", 24 S6A "Source Terminal. This pin can be an input or output.", 25 S7A "Source Terminal. This pin can be an input or output.", 26 S8A "Source Terminal. This pin can be an input or output.", 27 VSS (power) "Most Negative Power Supply Potential.", 28 DA "Drain Terminal. This pin can be an input or output."

## ADG527AKR
designator U?
CMOS Latched 8-Channel Analog Multiplexer, -40 to 85 degC, 28-pin SOIC (RW-28), Tube; Manufacturer: Analog Devices; PartNumber: ADG527AKR; Max Analog Signal Range: Vss to Vdd; Ron (ohms): 280; Supply V Guar Performance: Dual_(+/-12V), Dual_(+/-15V), Single_(+12V), Single_(+15V); t transition (s): 200n; DatasheetVersion: Rev. C; PackageVersion: 060706-A, 06/2006; PackageReference: RW-28; PackageDescription: 28-Pin Standard Small Outline Package, Body 17.9 x 7.5 mm, Pitch 1.27 mm; Supplier 1: Mouser; Supplier Part Number 1: 584-ADG527AKR; Packing: Tube; Mounting Technology: Surface Mount; Code_JEDEC: MS-013-AE; ComponentLink1Description: Manufacturer URL; ComponentLink1URL: http://www.analog.com/en/index.html; ComponentLink2Description: Datasheet; ComponentLink2URL: http://www.analog.com/static/imported-files/data_sheets/ADG526A_527A.pdf; ComponentLink3Description: Package Specification; ComponentLink3URL: http://www.analog.com/static/imported-files/packages/35833120341221RW_28.pdf
footprint ADI-RW-28_N (SOIC, 28-Leads, Body 17.9x7.5mm, Pitch 1.27mm, IPC Medium Density)
footprint ADI-RW-28_L (SOIC, 28-Leads, Body 17.9x7.5mm, Pitch 1.27mm, IPC High Density)
footprint ADI-RW-28_M (SOIC, 28-Leads, Body 17.9x7.5mm, Pitch 1.27mm, IPC Low Density)
pins: 1 VDD (power) "Most Positive Power Supply Potential.", 2 DB "Drain Terminal. This pin can be an input or output.", 3 ~{RS} (in) "Reset. The R\S\ signal clears both the address and enable data in the latches resulting in no output (all switches off).", 4 S8B "Source Terminal. This pin can be an input or output.", 5 S7B "Source Terminal. This pin can be an input or output.", 6 S6B "Source Terminal. This pin can be an input or output.", 7 S5B "Source Terminal. This pin can be an input or output.", 8 S4B "Source Terminal. This pin can be an input or output.", 9 S3B "Source Terminal. This pin can be an input or output.", 10 S2B "Source Terminal. This pin can be an input or output.", 11 S1B "Source Terminal. This pin can be an input or output.", 12 GND (power) "Ground (0 V) Reference.", 13 ~{WR} (in) "Write. The W\R\ signal latches the state of the address control lines and the enable line.", 14 NC "No Connect.", 15 A2 (in) "Logic Control Inputs. Selects which source terminal is connected to the drain (D).", 16 A1 (in) "Logic Control Inputs. Selects which source terminal is connected to the drain (D).", 17 A0 (in) "Logic Control Inputs. Selects which source terminal is connected to the drain (D).", 18 EN (in) "Enable. Active high logic control input.", 19 S1A "Source Terminal. This pin can be an input or output.", 20 S2A "Source Terminal. This pin can be an input or output.", 21 S3A "Source Terminal. This pin can be an input or output.", 22 S4A "Source Terminal. This pin can be an input or output.", 23 S5A "Source Terminal. This pin can be an input or output.", 24 S6A "Source Terminal. This pin can be an input or output.", 25 S7A "Source Terminal. This pin can be an input or output.", 26 S8A "Source Terminal. This pin can be an input or output.", 27 VSS (power) "Most Negative Power Supply Potential.", 28 DA "Drain Terminal. This pin can be an input or output."